# Altium footprint library 5176837-5_12pin_header.PcbLib: 1 footprints
Each footprint in its own frame and in the unit in brackets; x right, y up, seen from the top. Pads: shape width x height; smd on the part's side, far side on the other; paste and mask are expansions set on the pad; w line width, h text height; cw(c..) or ccw(c..) is an arc to the next point about the centre after c.
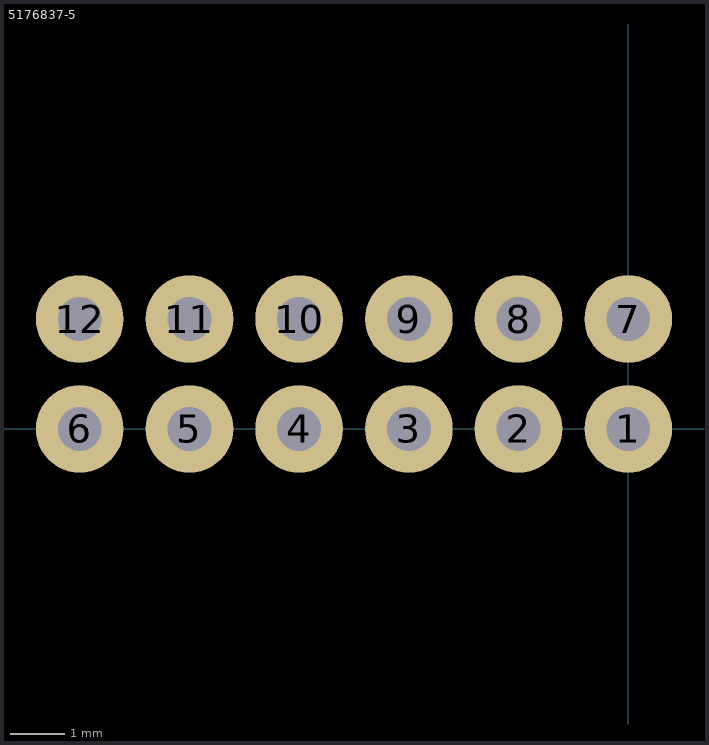
[diagram p0: the footprint, top view; thin cyan lines are the x and y axes]

## 5176837-5 [mm]
pads (12):
  round 1.6 hole 0.8: 1(0,0) 2(-2,0) 3(-4,0) 4(-6,0) 5(-8,0) 6(-10,0) 7(0,2) 8(-2,2) 9(-4,2) 10(-6,2) 11(-8,2) 12(-10,2)